# Altium schematic symbol library SteLib.SchLib: 2 symbols
Pins are listed as number, name and electrical type; pins without a type are passive.

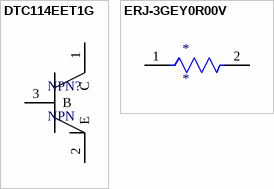
[diagram p0: symbols DTC114EET1G to ERJ-3GEY0R00V]

## DTC114EET1G
designator NPN?, comment NPN
NPN SC70 pre-biased; Manufacturer 1: ON Semiconductor; Manufacturer Part Number 1: DTC114EET1G; Description: DTC114EET1G NPN Digi Transistor; 100mA 50 V 10 kOhm; Ratio Of 1; 3-Pin SOT-416; Collector Emitter Voltage (VCEO): 50V; Element Configuration: Single; hFE Min: 35; Max Collector Current: 100mA; Max Power Dissipation: 200mW; Collector-emitter Voltage-Max: 250mV; Current Rating: 70mA; Output Voltage: 300mV; Supplier 1: Digi-Key; Stock 1: 0; Pricing 1: 1=0.19000, 10=0.17500, 100=0.09550, 500=0.05876, 1000=0.04007 (USD); RoHS: Yes; Case/Package: SOT-416; Number of Pins: 3; Contact Plating: Tin,Matte; Min Operating Temperature: -55°C; Max Operating Temperature: 150°C; Package Quantity: 1; Packaging: Tape and Reel; Collector Emitter Breakdown Voltage: 50V; Polarity: NPN; Series: -; Max Output Current: 100mA; Operating Supply Voltage: 50V; Max Breakdown Voltage: 50V; Continuous Collector Current: 100mA; Collector Emitter Saturation Voltage: 250mV; Voltage Rating (DC): 50V; Length: 1.6mm; Width: 0.8mm; Height: 0.75mm; Radiation Hardening: No; RoHS Compliant: Yes; Lead Free: Lead Free; Halogen Free: Halogen Free; REACH SVHC: No SVHC; ComponentLink1URL: https://datasheet.ciiva.com/15139/getdatasheetpartid-32044-15139553.pdf?src-supplier=Verical; ComponentLink1Description: https://datasheet.ciiva.com/15139/getdatasheetpartid-32044-15139553.pdf?src-supplier=Verical; ComponentLink2URL: https://datasheet.ciiva.com/989/dtc114e-d-989078.pdf?src-supplier=Digi-Key; ComponentLink2Description: https://datasheet.ciiva.com/989/dtc114e-d-989078.pdf?src-supplier=Digi-Key; ComponentLink3URL: https://datasheet.ciiva.com/989/dtc114e-d-989079.pdf?src-supplier=Digi-Key; ComponentLink3Description: https://datasheet.ciiva.com/989/dtc114e-d-989079.pdf?src-supplier=Digi-Key; ComponentLink4URL: https://datasheet.ciiva.com/989/dtc114e-d-989080.pdf?src-supplier=Digi-Key; ComponentLink4Description: https://datasheet.ciiva.com/989/dtc114e-d-989080.pdf?src-supplier=Digi-Key; ComponentLink5URL: https://datasheet.ciiva.com/11210/dtc124e-d-11210255.pdf?src-supplier=Avnet; ComponentLink5Description: https://datasheet.ciiva.com/11210/dtc124e-d-11210255.pdf?src-supplier=Avnet; ComponentLink6URL: https://datasheet.ciiva.com/16349/dtc114e-d-16349642.pdf?src-supplier=Future+Electronics; ComponentLink6Description: https://datasheet.ciiva.com/16349/dtc114e-d-16349642.pdf?src-supplier=Future+Electronics; ComponentLink7URL: https://datasheet.ciiva.com/22661/1813827-22661178.pdf?src-supplier=Element14; ComponentLink7Description: https://datasheet.ciiva.com/22661/1813827-22661178.pdf?src-supplier=Element14; Supplier Part Number 1: DTC114EET1GOSCT-ND
footprint DTC114EET1G (SOTFL, 3-Leads, Body 2.00x2.20mm, Pitch 0.65mm, IPC Medium Density)
pins: 1 C, 2 E, 3 B

## ERJ-3GEY0R00V
designator *
ERJ Series 0603 0 Ohm 0.1 W Jumper Surface Mount Thick Film Chip Resistor; Manufacturer 1: Panasonic; Manufacturer Part Number 1: ERJ-3GEY0R00V; Resistance: 0R; Power Rating: 100mW; Voltage Rating: 75V; Tolerance: 0%; Temperature Coefficient: 600ppm/°C; Voltage Rating (DC): 50V; Supplier 1: Future Electronics; Stock 1: 130000; Pricing 1: 5000=0.01240, 10000=0.01180, 15000=0.01120, 20000=0.01060, 25000=0.01010 (USD); RoHS: Yes; Mount: Surface Mount; Case/Package: 0603; Contact Plating: Tin; Case Code (Metric): 1608; Case Code (Imperial): 0603; Size Code: 0603; Min Operating Temperature: -55°C; Max Operating Temperature: 155°C; Resistor Type: Thick Film; Packaging: Tape and Reel; Package Quantity: 1; Number of Terminations: 2; Termination: SMD/SMT; Max Power Dissipation: 100mW; Features: Automotive AEC-Q200; Series: ERJ; Construction: Rectangular; Technology: THICK FILM; Length: 1.6mm; Width: 0.031inch; Height: 0.45mm; Depth: 0.8mm; Radiation Hardening: No; REACH SVHC: No SVHC; Military Standard: Not; Lead Free: Lead Free; RoHS Compliant: Yes; ComponentLink1URL: https://datasheet.ciiva.com/11808/0900766b80f806dd-11808207.pdf?src-supplier=RSComponents; ComponentLink1Description: https://datasheet.ciiva.com/11808/0900766b80f806dd-11808207.pdf?src-supplier=RSComponents; ComponentLink2URL: https://datasheet.ciiva.com/27055/1935748-27055113.pdf?src-supplier=Jameco; ComponentLink2Description: https://datasheet.ciiva.com/27055/1935748-27055113.pdf?src-supplier=Jameco; ComponentLink3URL: https://datasheet.ciiva.com/48532/aoa0000ce1-48532165.pdf?src-supplier=Avnet; ComponentLink3Description: https://datasheet.ciiva.com/48532/aoa0000ce1-48532165.pdf?src-supplier=Avnet; ComponentLink4URL: https://datasheet.ciiva.com/5959/1678796-5959707.pdf?src-supplier=Farnell; ComponentLink4Description: https://datasheet.ciiva.com/5959/1678796-5959707.pdf?src-supplier=Farnell; ComponentLink5URL: https://datasheet.ciiva.com/43460/1678796-43460647.pdf?src-supplier=Farnell; ComponentLink5Description: https://datasheet.ciiva.com/43460/1678796-43460647.pdf?src-supplier=Farnell; ComponentLink6URL: https://datasheet.ciiva.com/9198/aoa0000ce1-9198975.pdf?src-supplier=Avnet; ComponentLink6Description: https://datasheet.ciiva.com/9198/aoa0000ce1-9198975.pdf?src-supplier=Avnet; ComponentLink7URL: https://datasheet.ciiva.com/30199/4aoa0000ce1-30199822.pdf?src-supplier=Onlinecomponents.com; ComponentLink7Description: https://datasheet.ciiva.com/30199/4aoa0000ce1-30199822.pdf?src-supplier=Onlinecomponents.com; ComponentLink8URL: https://datasheet.ciiva.com/16758/70255313-16758527.pdf?src-supplier=Allied+Electronics; ComponentLink8Description: https://datasheet.ciiva.com/16758/70255313-16758527.pdf?src-supplier=Allied+Electronics; ComponentLink9URL: https://datasheet.ciiva.com/16834/aoa0000ce1-16834828.pdf?src-supplier=Future+Electronics; ComponentLink9Description: https://datasheet.ciiva.com/16834/aoa0000ce1-16834828.pdf?src-supplier=Future+Electronics; ComponentLink10URL: https://datasheet.ciiva.com/46377/1678796-46377868.pdf?src-supplier=Element14; ComponentLink10Description: https://datasheet.ciiva.com/46377/1678796-46377868.pdf?src-supplier=Element14; ComponentLink11URL: https://datasheet.ciiva.com/28695/1678796-28695833.pdf?src-supplier=Element14; ComponentLink11Description: https://datasheet.ciiva.com/28695/1678796-28695833.pdf?src-supplier=Element14; ComponentLink12URL: https://datasheet.ciiva.com/17215/aoa0000ce1-17215388.pdf?src-supplier=Avnet+Europe; ComponentLink12Description: https://datasheet.ciiva.com/17215/aoa0000ce1-17215388.pdf?src-supplier=Avnet+Europe; Supplier Part Number 1: 9028511
footprint ERJ-3GEY0R00V
pins: 1, 2